# EAGLE library part PARALLELLA_REV_1_1_PARTUAL (library di_parallella)
Parallella board Rev 1.1, power and FPGA expansion connectos.
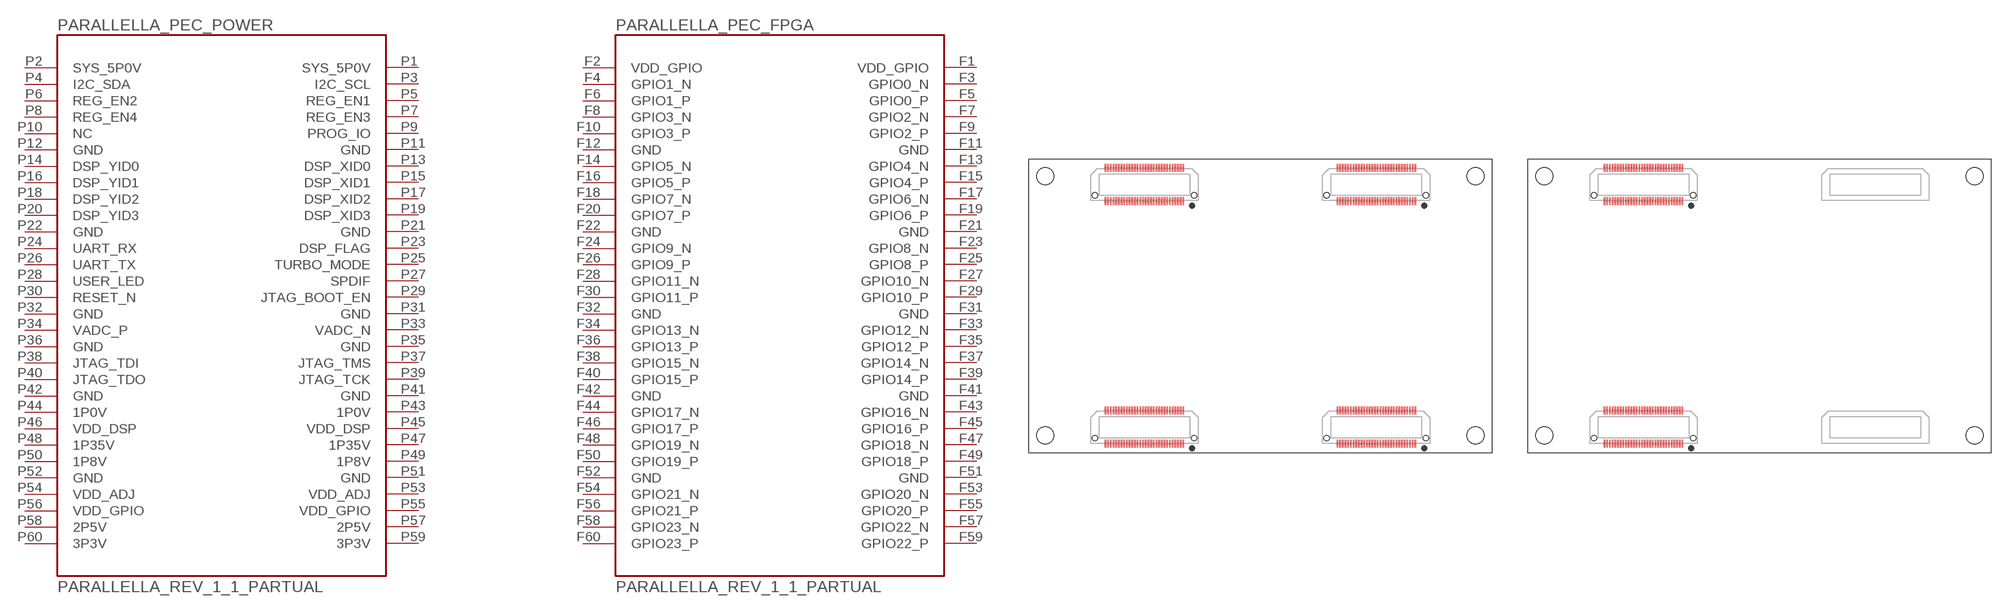
[diagram p1: symbol with the pads of PARALLELLA_REV_1_1_FULL; footprints PARALLELLA_REV_1_1_FULL, PARALLELLA_REV_1_1_PARTUAL]

Designator prefix PARALLELLA; gates _PEC_POWER=PEC_POWER_REV_1_1 _PEC_FPGA=PEC_FPGA_REV_1_1

## PARALLELLA_REV_1_1_PARTUAL4CONN  [PARALLELLA_REV_1_1_FULL]
F1  _PEC_FPGA:VDD_GPIO  pas
F2  _PEC_FPGA:VDD_GPIO  pas
F3  _PEC_FPGA:GPIO0_N
F4  _PEC_FPGA:GPIO1_N
F5  _PEC_FPGA:GPIO0_P
F6  _PEC_FPGA:GPIO1_P
F7  _PEC_FPGA:GPIO2_N
F8  _PEC_FPGA:GPIO3_N
F9  _PEC_FPGA:GPIO2_P
F10  _PEC_FPGA:GPIO3_P
F11  _PEC_FPGA:GND  pas
F12  _PEC_FPGA:GND  pas
F13  _PEC_FPGA:GPIO4_N
F14  _PEC_FPGA:GPIO5_N
F15  _PEC_FPGA:GPIO4_P
F16  _PEC_FPGA:GPIO5_P
F17  _PEC_FPGA:GPIO6_N
F18  _PEC_FPGA:GPIO7_N
F19  _PEC_FPGA:GPIO6_P
F20  _PEC_FPGA:GPIO7_P
F21  _PEC_FPGA:GND  pas
F22  _PEC_FPGA:GND  pas
F23  _PEC_FPGA:GPIO8_N
F24  _PEC_FPGA:GPIO9_N
F25  _PEC_FPGA:GPIO8_P
F26  _PEC_FPGA:GPIO9_P
F27  _PEC_FPGA:GPIO10_N
F28  _PEC_FPGA:GPIO11_N
F29  _PEC_FPGA:GPIO10_P
F30  _PEC_FPGA:GPIO11_P
F31  _PEC_FPGA:GND  pas
F32  _PEC_FPGA:GND  pas
F33  _PEC_FPGA:GPIO12_N
F34  _PEC_FPGA:GPIO13_N
F35  _PEC_FPGA:GPIO12_P
F36  _PEC_FPGA:GPIO13_P
F37  _PEC_FPGA:GPIO14_N
F38  _PEC_FPGA:GPIO15_N
F39  _PEC_FPGA:GPIO14_P
F40  _PEC_FPGA:GPIO15_P
F41  _PEC_FPGA:GND  pas
F42  _PEC_FPGA:GND  pas
F43  _PEC_FPGA:GPIO16_N
F44  _PEC_FPGA:GPIO17_N
F45  _PEC_FPGA:GPIO16_P
F46  _PEC_FPGA:GPIO17_P
F47  _PEC_FPGA:GPIO18_N
F48  _PEC_FPGA:GPIO19_N
F49  _PEC_FPGA:GPIO18_P
F50  _PEC_FPGA:GPIO19_P
F51  _PEC_FPGA:GND  pas
F52  _PEC_FPGA:GND  pas
F53  _PEC_FPGA:GPIO20_N
F54  _PEC_FPGA:GPIO21_N
F55  _PEC_FPGA:GPIO20_P
F56  _PEC_FPGA:GPIO21_P
F57  _PEC_FPGA:GPIO22_N
F58  _PEC_FPGA:GPIO23_N
F59  _PEC_FPGA:GPIO22_P
F60  _PEC_FPGA:GPIO23_P
P1  _PEC_POWER:SYS_5P0V  pas
P2  _PEC_POWER:SYS_5P0V  pas
P3  _PEC_POWER:I2C_SCL
P4  _PEC_POWER:I2C_SDA
P5  _PEC_POWER:REG_EN1  in
P6  _PEC_POWER:REG_EN2  in
P7  _PEC_POWER:REG_EN3  in
P8  _PEC_POWER:REG_EN4  in
P9  _PEC_POWER:PROG_IO
P10  _PEC_POWER:NC  nc
P11  _PEC_POWER:GND  pas
P12  _PEC_POWER:GND  pas
P13  _PEC_POWER:DSP_XID0  in
P14  _PEC_POWER:DSP_YID0  in
P15  _PEC_POWER:DSP_XID1  in
P16  _PEC_POWER:DSP_YID1  in
P17  _PEC_POWER:DSP_XID2  in
P18  _PEC_POWER:DSP_YID2  in
P19  _PEC_POWER:DSP_XID3  in
P20  _PEC_POWER:DSP_YID3  in
P21  _PEC_POWER:GND  pas
P22  _PEC_POWER:GND  pas
P23  _PEC_POWER:DSP_FLAG  out
P24  _PEC_POWER:UART_RX  in
P25  _PEC_POWER:TURBO_MODE  out
P26  _PEC_POWER:UART_TX  out
P27  _PEC_POWER:SPDIF  out
P28  _PEC_POWER:USER_LED  out
P29  _PEC_POWER:JTAG_BOOT_EN  in
P30  _PEC_POWER:RESET_N  out
P31  _PEC_POWER:GND  pas
P32  _PEC_POWER:GND  pas
P33  _PEC_POWER:VADC_N  in
P34  _PEC_POWER:VADC_P  in
P35  _PEC_POWER:GND  pas
P36  _PEC_POWER:GND  pas
P37  _PEC_POWER:JTAG_TMS  in
P38  _PEC_POWER:JTAG_TDI  in
P39  _PEC_POWER:JTAG_TCK  in
P40  _PEC_POWER:JTAG_TDO  out
P41  _PEC_POWER:GND  pas
P42  _PEC_POWER:GND  pas
P43  _PEC_POWER:1P0V  pas
P44  _PEC_POWER:1P0V  pas
P45  _PEC_POWER:VDD_DSP  pas
P46  _PEC_POWER:VDD_DSP  pas
P47  _PEC_POWER:1P35V  pas
P48  _PEC_POWER:1P35V  pas
P49  _PEC_POWER:1P8V  pas
P50  _PEC_POWER:1P8V  pas
P51  _PEC_POWER:GND  pas
P52  _PEC_POWER:GND  pas
P53  _PEC_POWER:VDD_ADJ  pas
P54  _PEC_POWER:VDD_ADJ  pas
P55  _PEC_POWER:VDD_GPIO  pas
P56  _PEC_POWER:VDD_GPIO  pas
P57  _PEC_POWER:2P5V  pas
P58  _PEC_POWER:2P5V  pas
P59  _PEC_POWER:3P3V  pas
P60  _PEC_POWER:3P3V  pas

## PARALLELLA_REV_1_1_PARTUAL2CONN  [PARALLELLA_REV_1_1_PARTUAL]
Pads as for PARALLELLA_REV_1_1_FULL

## Footprint PARALLELLA_REV_1_1_FULL (pad centres in mm)
Expansion card footprint for Parallella board revision 1.1 http://www.parallella.org/docs/parallella_manual.pdf
smd 0.305 x 1.448: F1 28.84,1.613; F2 28.84,7.785; F3 28.34,1.613; F4 28.34,7.785; F5 27.84,1.613; F6 27.84,7.785; F7 27.34,1.613; F8 27.34,7.785; F9 26.84,1.613; F10 26.84,7.785; F11 26.34,1.613; F12 26.34,7.785; F13 25.84,1.613; F14 25.84,7.785; F15 25.34,1.613; F16 25.34,7.785; F17 24.84,1.613; F18 24.84,7.785; F19 24.34,1.613; F20 24.34,7.785; F21 23.84,1.613; F22 23.84,7.785; F23 23.34,1.613; F24 23.34,7.785; F25 22.84,1.613; F26 22.84,7.785; F27 22.34,1.613; F28 22.34,7.785; F29 21.84,1.613; F30 21.84,7.785; F31 21.34,1.613; F32 21.34,7.785; F33 20.84,1.613; F34 20.84,7.785; F35 20.34,1.613; F36 20.34,7.785; F37 19.84,1.613; F38 19.84,7.785; F39 19.34,1.613; F40 19.34,7.785; F41 18.84,1.613; F42 18.84,7.785; F43 18.34,1.613; F44 18.34,7.785; F45 17.84,1.613; F46 17.84,7.785; F47 17.34,1.613; F48 17.34,7.785; F49 16.84,1.613; F50 16.84,7.785; F51 16.34,1.613; F52 16.34,7.785; F53 15.84,1.613; F54 15.84,7.785; F55 15.34,1.613; F56 15.34,7.785; F57 14.84,1.613; F58 14.84,7.785; F59 14.34,1.613; F60 14.34,7.785; N1 72.02,1.613; N2 72.02,7.785; N3 71.52,1.613; N4 71.52,7.785; N5 71.02,1.613; N6 71.02,7.785; N7 70.52,1.613; N8 70.52,7.785; N9 70.02,1.613; N10 70.02,7.785; N11 69.52,1.613; N12 69.52,7.785; N13 69.02,1.613; N14 69.02,7.785; N15 68.52,1.613; N16 68.52,7.785; N17 68.02,1.613; N18 68.02,7.785; N19 67.52,1.613; N20 67.52,7.785; N21 67.02,1.613; N22 67.02,7.785; N23 66.52,1.613; N24 66.52,7.785; N25 66.02,1.613; N26 66.02,7.785; N27 65.52,1.613; N28 65.52,7.785; N29 65.02,1.613; N30 65.02,7.785; N31 64.52,1.613; N32 64.52,7.785; N33 64.02,1.613; N34 64.02,7.785; N35 63.52,1.613; N36 63.52,7.785; N37 63.02,1.613; N38 63.02,7.785; N39 62.52,1.613; N40 62.52,7.785; N41 62.02,1.613; N42 62.02,7.785; N43 61.52,1.613; N44 61.52,7.785; N45 61.02,1.613; N46 61.02,7.785; N47 60.52,1.613; N48 60.52,7.785; N49 60.02,1.613; N50 60.02,7.785; N51 59.52,1.613; N52 59.52,7.785; N53 59.02,1.613; N54 59.02,7.785; N55 58.52,1.613; N56 58.52,7.785; N57 58.02,1.613; N58 58.02,7.785; N59 57.52,1.613; N60 57.52,7.785; P1 28.84,46.825; P2 28.84,52.997; P3 28.34,46.825; P4 28.34,52.997; P5 27.84,46.825; P6 27.84,52.997; P7 27.34,46.825; P8 27.34,52.997; P9 26.84,46.825; P10 26.84,52.997; P11 26.34,46.825; P12 26.34,52.997; P13 25.84,46.825; P14 25.84,52.997; P15 25.34,46.825; P16 25.34,52.997; P17 24.84,46.825; P18 24.84,52.997; P19 24.34,46.825; P20 24.34,52.997; P21 23.84,46.825; P22 23.84,52.997; P23 23.34,46.825; P24 23.34,52.997; P25 22.84,46.825; P26 22.84,52.997; P27 22.34,46.825; P28 22.34,52.997; P29 21.84,46.825; P30 21.84,52.997; P31 21.34,46.825; P32 21.34,52.997; P33 20.84,46.825; P34 20.84,52.997; P35 20.34,46.825; P36 20.34,52.997; P37 19.84,46.825; P38 19.84,52.997; P39 19.34,46.825; P40 19.34,52.997; P41 18.84,46.825; P42 18.84,52.997; P43 18.34,46.825; P44 18.34,52.997; P45 17.84,46.825; P46 17.84,52.997; P47 17.34,46.825; P48 17.34,52.997; P49 16.84,46.825; P50 16.84,52.997; P51 16.34,46.825; P52 16.34,52.997; P53 15.84,46.825; P54 15.84,52.997; P55 15.34,46.825; P56 15.34,52.997; P57 14.84,46.825; P58 14.84,52.997; P59 14.34,46.825; P60 14.34,52.997; S1 72.02,46.825; S2 72.02,52.997; S3 71.52,46.825; S4 71.52,52.997; S5 71.02,46.825; S6 71.02,52.997; S7 70.52,46.825; S8 70.52,52.997; S9 70.02,46.825; S10 70.02,52.997; S11 69.52,46.825; S12 69.52,52.997; S13 69.02,46.825; S14 69.02,52.997; S15 68.52,46.825; S16 68.52,52.997; S17 68.02,46.825; S18 68.02,52.997; S19 67.52,46.825; S20 67.52,52.997; S21 67.02,46.825; S22 67.02,52.997; S23 66.52,46.825; S24 66.52,52.997; S25 66.02,46.825; S26 66.02,52.997; S27 65.52,46.825; S28 65.52,52.997; S29 65.02,46.825; S30 65.02,52.997; S31 64.52,46.825; S32 64.52,52.997; S33 64.02,46.825; S34 64.02,52.997; S35 63.52,46.825; S36 63.52,52.997; S37 63.02,46.825; S38 63.02,52.997; S39 62.52,46.825; S40 62.52,52.997; S41 62.02,46.825; S42 62.02,52.997; S43 61.52,46.825; S44 61.52,52.997; S45 61.02,46.825; S46 61.02,52.997; S47 60.52,46.825; S48 60.52,52.997; S49 60.02,46.825; S50 60.02,52.997; S51 59.52,46.825; S52 59.52,52.997; S53 59.02,46.825; S54 59.02,52.997; S55 58.52,46.825; S56 58.52,52.997; S57 58.02,46.825; S58 58.02,52.997; S59 57.52,46.825; S60 57.52,52.997
hole 3.175 at 3.175,3.175
hole 3.175 at 3.175,51.435
hole 3.175 at 83.185,51.435
hole 3.175 at 83.185,3.175
hole 1.016 at 30.836,2.667
hole 1.016 at 12.344,2.667
hole 1.016 at 30.836,47.879
hole 1.016 at 12.344,47.879
hole 1.016 at 74.016,2.667
hole 1.016 at 55.524,2.667
hole 1.016 at 74.016,47.879
hole 1.016 at 55.524,47.879

## Footprint PARALLELLA_REV_1_1_PARTUAL (pad centres in mm)
smd 0.305 x 1.448: F1 28.84,1.613; F2 28.84,7.785; F3 28.34,1.613; F4 28.34,7.785; F5 27.84,1.613; F6 27.84,7.785; F7 27.34,1.613; F8 27.34,7.785; F9 26.84,1.613; F10 26.84,7.785; F11 26.34,1.613; F12 26.34,7.785; F13 25.84,1.613; F14 25.84,7.785; F15 25.34,1.613; F16 25.34,7.785; F17 24.84,1.613; F18 24.84,7.785; F19 24.34,1.613; F20 24.34,7.785; F21 23.84,1.613; F22 23.84,7.785; F23 23.34,1.613; F24 23.34,7.785; F25 22.84,1.613; F26 22.84,7.785; F27 22.34,1.613; F28 22.34,7.785; F29 21.84,1.613; F30 21.84,7.785; F31 21.34,1.613; F32 21.34,7.785; F33 20.84,1.613; F34 20.84,7.785; F35 20.34,1.613; F36 20.34,7.785; F37 19.84,1.613; F38 19.84,7.785; F39 19.34,1.613; F40 19.34,7.785; F41 18.84,1.613; F42 18.84,7.785; F43 18.34,1.613; F44 18.34,7.785; F45 17.84,1.613; F46 17.84,7.785; F47 17.34,1.613; F48 17.34,7.785; F49 16.84,1.613; F50 16.84,7.785; F51 16.34,1.613; F52 16.34,7.785; F53 15.84,1.613; F54 15.84,7.785; F55 15.34,1.613; F56 15.34,7.785; F57 14.84,1.613; F58 14.84,7.785; F59 14.34,1.613; F60 14.34,7.785; P1 28.84,46.825; P2 28.84,52.997; P3 28.34,46.825; P4 28.34,52.997; P5 27.84,46.825; P6 27.84,52.997; P7 27.34,46.825; P8 27.34,52.997; P9 26.84,46.825; P10 26.84,52.997; P11 26.34,46.825; P12 26.34,52.997; P13 25.84,46.825; P14 25.84,52.997; P15 25.34,46.825; P16 25.34,52.997; P17 24.84,46.825; P18 24.84,52.997; P19 24.34,46.825; P20 24.34,52.997; P21 23.84,46.825; P22 23.84,52.997; P23 23.34,46.825; P24 23.34,52.997; P25 22.84,46.825; P26 22.84,52.997; P27 22.34,46.825; P28 22.34,52.997; P29 21.84,46.825; P30 21.84,52.997; P31 21.34,46.825; P32 21.34,52.997; P33 20.84,46.825; P34 20.84,52.997; P35 20.34,46.825; P36 20.34,52.997; P37 19.84,46.825; P38 19.84,52.997; P39 19.34,46.825; P40 19.34,52.997; P41 18.84,46.825; P42 18.84,52.997; P43 18.34,46.825; P44 18.34,52.997; P45 17.84,46.825; P46 17.84,52.997; P47 17.34,46.825; P48 17.34,52.997; P49 16.84,46.825; P50 16.84,52.997; P51 16.34,46.825; P52 16.34,52.997; P53 15.84,46.825; P54 15.84,52.997; P55 15.34,46.825; P56 15.34,52.997; P57 14.84,46.825; P58 14.84,52.997; P59 14.34,46.825; P60 14.34,52.997
hole 3.175 at 3.175,3.175
hole 3.175 at 3.175,51.435
hole 3.175 at 83.185,51.435
hole 3.175 at 83.185,3.175
hole 1.016 at 30.836,2.667
hole 1.016 at 12.344,2.667
hole 1.016 at 30.836,47.879
hole 1.016 at 12.344,47.879